# Altium footprint library PcbLib1.PcbLib: 2 footprints
Each footprint in its own frame and in the unit in brackets; x right, y up, seen from the top. Pads: shape width x height; smd on the part's side, far side on the other; paste and mask are expansions set on the pad; w line width, h text height; cw(c..) or ccw(c..) is an arc to the next point about the centre after c.
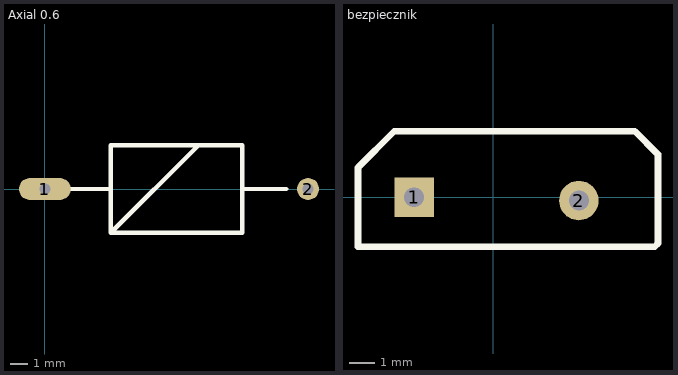
[diagram p0: the footprints below, top view; thin cyan lines are the x and y axes]

## Axial 0.6 [mm]
pads (2):
  oval 3x1.27 hole 0.635: 1(0,0)
  round 1.27 hole 0.635: 2(15.24,0)
Top Overlay:
  lines w0.254: 1.27,0 3.81,0 ; 8.89,2.54 3.81,-2.54 ; 11.43,0 13.97,0 ; 3.81,-2.54 3.81,0 ; 3.81,-2.54 11.43,-2.54 11.43,2.54 3.81,2.54 3.81,0

## bezpiecznik [mil]
pads (2):
  rect 60x60 hole 30: 1(-120,0)
  round 60 hole 30: 2(130,-5)
Top Overlay:
  lines w10: -205,-75 245,-75 250,-70 250,65 215,100 -150,100 -205,45 -205,-75